# Altium footprint library ZYNQ_Motherboard_final.PcbLib: 31 footprints (part 1 of 2)
Each footprint in its own frame and in the unit in brackets; x right, y up, seen from the top. Pads: shape width x height; smd on the part's side, far side on the other; paste and mask are expansions set on the pad; w line width, h text height; cw(c..) or ccw(c..) is an arc to the next point about the centre after c.
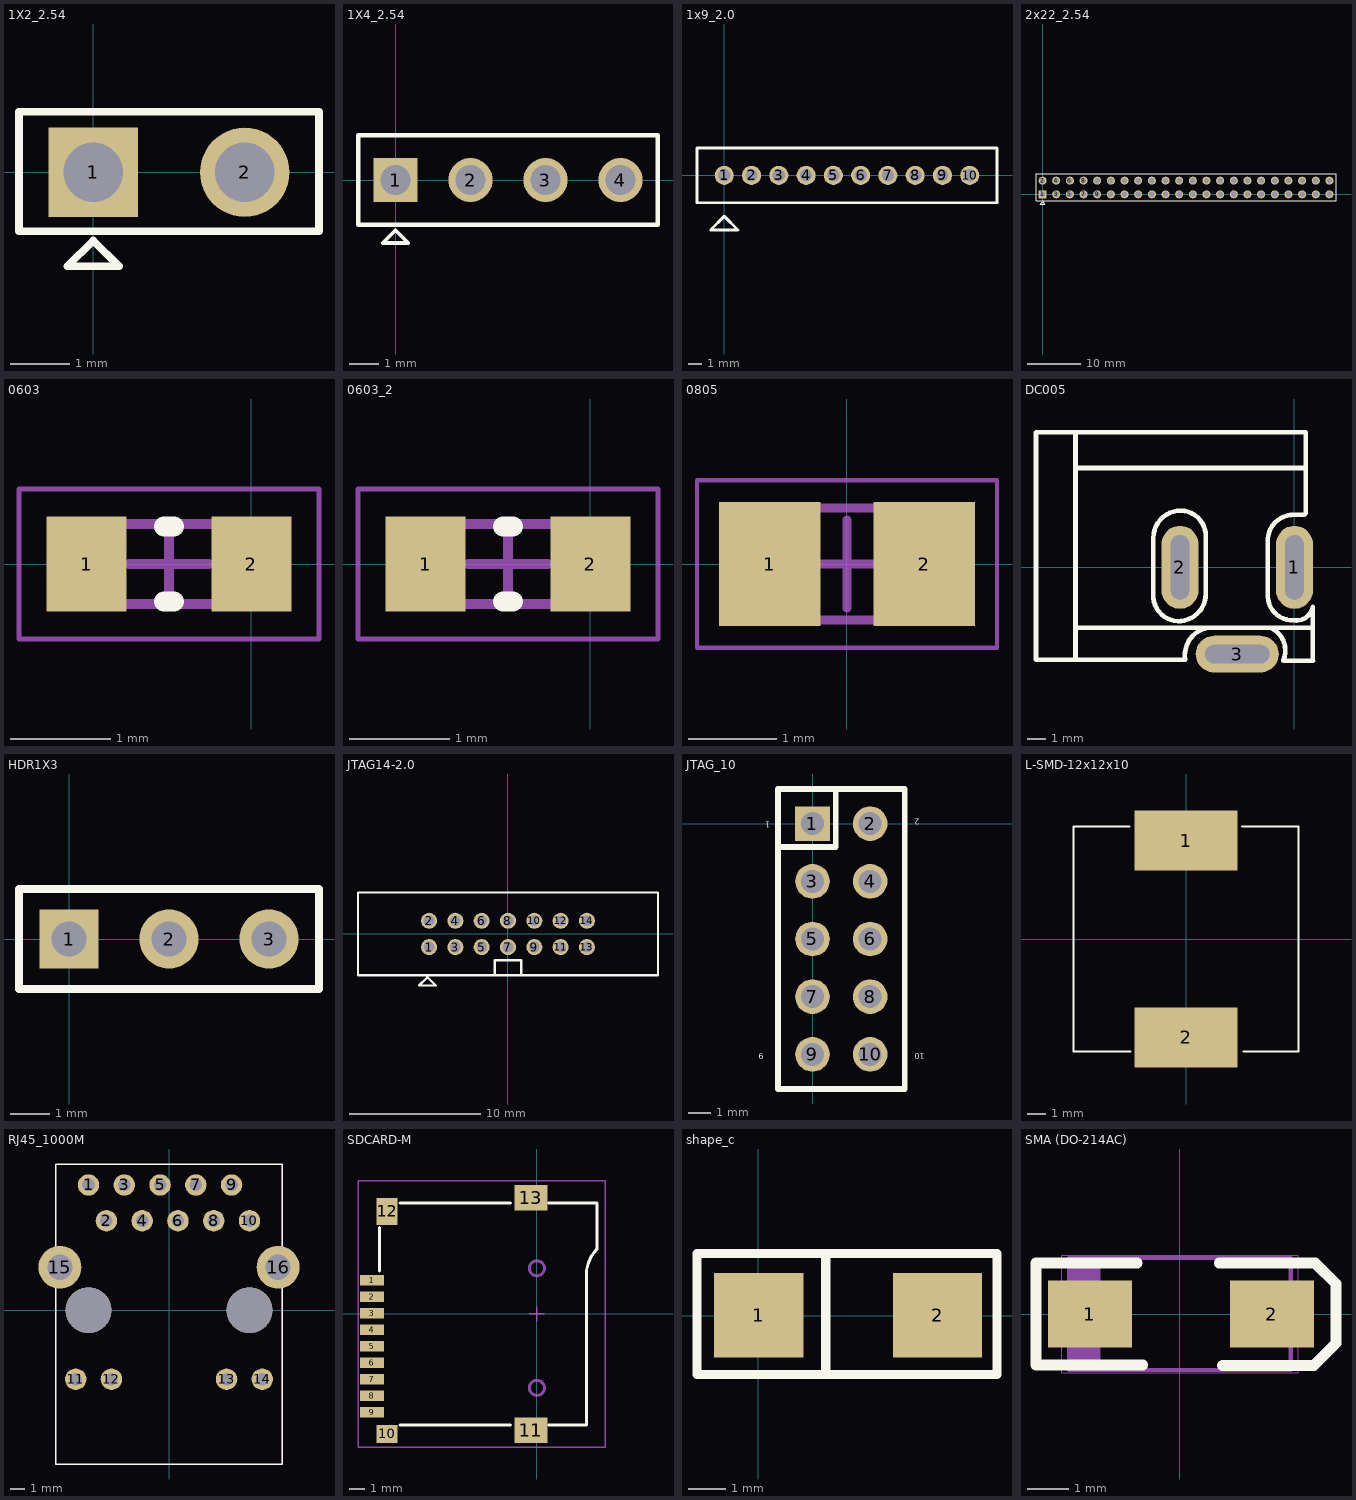
[diagram p0: the footprints below, top view; thin cyan lines are the x and y axes]

## 1X2_2.54 [mm]
pads (2):
  rect 1.5x1.5 hole 1: 1(0,0)
  round 1.5 hole 1: 2(2.54,0)
Top Overlay:
  lines w0.127: -1.245,-0.991 -1.245,1.016 3.785,1.016 3.785,-0.991 -1.245,-0.991 ; -0.432,-1.575 0,-1.143 0.432,-1.575 -0.432,-1.575

## 1X4_2.54 [mm]
height 1.25
pads (4):
  rect 1.5x1.5 hole 1: 1(0,0)
  round 1.5 hole 1: 2(2.54,0) 3(5.08,0) 4(7.62,0)
Top Overlay:
  lines w0.127: -0.432,-2.134 0,-1.702 0.432,-2.134 -0.432,-2.134
  lines w0.152: -1.27,-1.524 -1.27,1.524 8.89,1.524 8.89,-1.524 -1.27,-1.524

## 1x9_2.0 [mm]
pads (10):
  round 1.4 hole 0.9: 1(0,0) 2(2,0) 3(4,0) 4(6,0) 5(8,0) 6(10,0) 7(12,0) 8(14,0) 9(16,0) 10(18,0)
Top Overlay:
  lines w0.203: -2,-2 20,-2 20,2 -2,2 -2,-2 ; -1,-4 1,-4 0,-3 -1,-4

## 2x22_2.54 [mm]
pads (44):
  rect 1.5x1.5 hole 1: 1(0,0)
  round 1.5 hole 1: 2(0,2.54) 3(2.54,0) 4(2.54,2.54) 5(5.08,0) 6(5.08,2.54) 7(7.62,0) 8(7.62,2.54) 9(10.16,0) 10(10.16,2.54) 11(12.7,0) 12(12.7,2.54) 13(15.24,0) 14(15.24,2.54) 15(17.78,0) 16(17.78,2.54) 17(20.32,0) 18(20.32,2.54) 19(22.86,0) 20(22.86,2.54) 21(25.4,0) 22(25.4,2.54) 23(27.94,0) 24(27.94,2.54) 25(30.48,0) 26(30.48,2.54) 27(33.02,0) 28(33.02,2.54) 29(35.56,0) 30(35.56,2.54) 31(38.1,0) 32(38.1,2.54) 33(40.64,0) 34(40.64,2.54) 35(43.18,0) 36(43.18,2.54) 37(45.72,0) 38(45.72,2.54) 39(48.26,0) 40(48.26,2.54) 41(50.8,0) 42(50.8,2.54) 43(53.34,0) 44(53.34,2.54)
Top Overlay:
  lines w0.127: -1.219,-1.194 -1.219,3.708 -1.143,3.785 -0.66,3.785 54.559,3.785 54.559,-1.194 -1.219,-1.194 ; -0.432,-1.803 0,-1.372 0.432,-1.803 -0.432,-1.803

## 0603 [mm]
pads (2):
  rect 0.8x0.95 smd: 1(-1.65,0) 2(0,0)
Top Overlay:
  lines w0.2: -0.875,-0.375 -0.775,-0.375 ; -0.875,0.375 -0.775,0.375
Mechanical 13:
  lines w0.1: -1.625,-0.4 -0.025,-0.4 -0.025,0.4 -1.625,0.4 -1.625,-0.4
Mechanical 15:
  lines w0.05: -2.325,-0.75 0.675,-0.75 0.675,0.75 -2.325,0.75 -2.325,-0.75
  lines w0.1: -1.225,0 -0.425,0 ; -0.825,-0.4 -0.825,0.4
3D body: height 0.5, standoff 0, extent -0.325,-0.4 -0.025,0.4
3D body: height 0.5, standoff 0, extent -1.625,-0.4 -1.325,0.4
3D body: height 0.5, standoff 0, extent -1.325,-0.4 -0.325,0.4

## 0603_2 [mm]
pads (2):
  rect 0.8x0.95 smd: 1(-1.65,0) 2(0,0)
Top Overlay:
  lines w0.2: -0.875,-0.375 -0.775,-0.375 ; -0.875,0.375 -0.775,0.375
Mechanical 13:
  lines w0.1: -1.625,-0.4 -0.025,-0.4 -0.025,0.4 -1.625,0.4 -1.625,-0.4
Mechanical 15:
  lines w0.05: -2.325,-0.75 0.675,-0.75 0.675,0.75 -2.325,0.75 -2.325,-0.75
  lines w0.1: -1.225,0 -0.425,0 ; -0.825,-0.4 -0.825,0.4
3D body: height 0.5, standoff 0, extent -0.325,-0.4 -0.025,0.4
3D body: height 0.5, standoff 0, extent -1.625,-0.4 -1.325,0.4
3D body: height 0.5, standoff 0, extent -1.325,-0.4 -0.325,0.4

## 0805 [mm] "Chip Capacitor, 2-Leads, Body 2.00x1.27mm, IPC Medium Density"
height 1.25
pads (2):
  rect 1.15x1.4 smd: 1(-0.875,0) 2(0.875,0)
Mechanical 13:
  lines w0.1: -1,-0.635 -1,0.635 1,0.635 1,-0.635 -1,-0.635
Mechanical 15:
  lines w0.05: -1.7,-0.95 -1.7,0.95 1.7,0.95 1.7,-0.95 -1.7,-0.95
  lines w0.1: -0.5,0 0.5,0 ; 0,-0.5 0,0.5
3D body: height 1.25, standoff 0, extent -0.55,-0.635 0.55,0.635
3D body: height 1.25, standoff 0, extent -1,-0.635 -0.55,0.635
3D body: height 1.25, standoff 0, extent 0.55,-0.635 1,0.635

## DC005 [mm]
pads (3):
  oval 2x4.5 hole 3.5 slot 1 at 0 deg: 1(0,0) 2(-6.2,0)
  oval 4.5x2 hole 3.5 slot 1 at 90 deg: 3(-3.1,-4.7)
Top Overlay:
  lines w0.254: -11.862,-4.902 -11.862,7.311 ; -11.862,-3.327 -11.811,-3.277 -4.674,-3.277 ; -11.862,5.385 0.584,5.385 ; -7.645,1.588 -7.645,-1.448 ccw(c-6.248,-1.524) -6.325,-2.921 ccw(c-6.299,-1.422) -4.801,-1.448 -4.801,1.651 ccw(c-6.185,1.689) -6.147,3.073 ccw(c-6.159,1.588) -7.645,1.6 ; -0.229,2.845 0.533,2.845 0.619,2.93 0.619,7.311 -14,7.311 -14,-5 -5.918,-5 cw(c-4.434,-4.761) -4.674,-3.277 ; 0,2.845 ccw(c-0.064,1.46) -1.448,1.524 -1.448,-1.575 ccw(c-0.102,-1.524) -0.051,-2.87 ccw(c0.102,-1.981) 0.991,-2.134 0.991,-5.045 ; 0.94,-3.277 -1.295,-3.277 ; 1,-5.055 -0.61,-5.055 ccw(c-1.841,-4.508) -1.295,-3.277 ; -4.674,-3.277 -1.295,-3.277
3D body: height 9, standoff 0, extent -13.818,-4.966 0.66,7.404

## HDR1X3 [mm] "Connector; Header; 3 Position"
height 0.55
pads (3):
  rect 1.5x1.5 hole 0.9: 1(0,0)
  round 1.5 hole 0.9: 2(2.54,0) 3(5.08,0)
Top Overlay:
  lines w0.2: -1.27,-1.27 6.35,-1.27 6.35,1.27 -1.27,1.27 -1.27,-1.27

## JTAG14-2.0 [mil]
height 39.37
pads (14):
  round 48 hole 32: 1(-236.22,-39.37) 2(-236.22,39.37) 3(-157.48,-39.37) 4(-157.48,39.37) 5(-78.74,-39.37) 6(-78.74,39.37) 7(0,-39.37) 8(0,39.37) 9(78.74,-39.37) 10(78.74,39.37) 11(157.48,-39.37) 12(157.48,39.37) 13(236.22,-39.37) 14(236.22,39.37)
Top Overlay:
  lines w7: -39.37,-124.02 -39.37,-78.74 39.37,-78.74 39.37,-124.02 ; -448.82,-124.02 448.82,-124.02 448.82,124.02 -448.82,124.02 -448.82,-124.02 ; -266.22,-154.37 -241.22,-129.37 -216.22,-154.37 -266.22,-154.37

## JTAG_10 [mil]
pads (10):
  rect 60x60 hole 40: 1(-0.35,0.3)
  round 60 hole 40: 2(99.65,0.3) 3(-0.35,-99.7) 4(99.65,-99.7) 5(-0.35,-199.7) 6(99.65,-199.7) 7(-0.35,-299.7) 8(99.65,-299.7) 9(-0.35,-399.7) 10(99.65,-399.7)
Top Overlay:
  lines w10: -60.35,-40 40,-40 40,60 ; -60.35,-459.7 159.65,-459.7 159.65,60.3 -60.35,60.3 -60.35,-459.7
  text "10" at 193.89,-397.89 h9.84
  text "9" at -84.81,-397.89 h9.84
  text "2" at 185.2,8.68 h9.84
  text "1" at -73.8,3.68 h9.84

## L-SMD-12x12x10 [mm]
pads (2):
  rect 5.5x3.2 smd: 1(0,5.25) 2(0,-5.25)
Top Overlay:
  lines w0.127: -3.028,6 -6,6 -6,-6 -2.977,-6 ; 3.003,6 6,6 6,-6 3.068,-6

## RJ45_1000M [mil] "HY911130A"
height 47.24
pads (18):
  round 60 hole 35: 1(-225,350) 2(-175,250) 3(-125,350) 4(-75,250) 5(-25,350) 6(25,250) 7(75,350) 8(125,250) 9(175,350) 10(225,250) 11(-260.83,-192.91) 12(-160.83,-192.91) 13(160.83,-192.91) 14(260.83,-192.91)
  round 120 hole 70: 15(-304.92,120.08) 16(304.92,120.08)
  round 128 hole 128: " "(-225,0) " "(225,0)
Top Overlay:
  lines w3.94: -316.93,-429.92 316.93,-429.92 316.93,408.66 -316.93,408.66 -316.93,-429.92
Mechanical 6:
  text "9" at 175,324.9 h30
  text "8" at 125,224.9 h30
  text "6" at 25,224.9 h30
  text "5" at -25,324.9 h30
  text "7" at 75,324.9 h30
  text "4" at -75,224.9 h30
  text "3" at -125,324.9 h30
  text "2" at -175,224.9 h30
  text "16" at 304.92,82.38 h30
  text "15" at -304.92,82.38 h30
  text "1" at -225,324.9 h30
Mechanical 7:
  lines w1: -316.93,-429.92 316.93,-429.92 316.93,408.66 -316.93,408.66 -316.93,-429.92

## SDCARD-M [mm] "TF卡"
height 1.5
pads (13):
  rect 1.6x0.7 smd: 1(-11.008,2.25) 2(-11.008,1.15) 3(-11.008,0.05) 4(-11.008,-1.05) 5(-11.008,-2.15) 6(-11.008,-3.25) 7(-11.008,-4.35) 8(-11.008,-5.45) 9(-11.008,-6.55)
  rect 1.4x1.2 smd: 10(-10,-8.004)
  rect 2.2x1.7 smd: 11(-0.4,-7.75) 13(-0.4,7.75)
  rect 1.4x1.8 smd: 12(-10,6.85)
Top Overlay:
  lines w0.2: -10.5,2.88 -10.5,5.756 ; -9.144,-7.4 -1.778,-7.4 ; -9.144,7.4 -1.778,7.4 ; 0.762,-7.4 3.3,-7.4 3.3,1.016 ; 0.762,7.4 4,7.4 4,4.318 ccw(c5.69,2.628) 3.3,2.628 3.3,0.762
Mechanical 1:
  circle w0.2: c0,-4.93 r0.5
  circle w0.2: c0,3.05 r0.5
Mechanical 15:
  lines w0.1: -0.5,0 0.5,0 ; 0,-0.5 0,0.5 ; -11.938,-8.89 4.572,-8.89 4.572,8.89 -11.938,8.89 -11.938,-8.89

## shape_c [mil]
pads (2):
  rect 95x90 smd: 1(0.76,0.43) 2(190.76,0.43)
Top Overlay:
  lines w10: -65,-62.57 254,-62.57 254,66 -65,66 -65,-60 ; 72,-62.41 72,60

## SMA (DO-214AC) [mm]
pads (2):
  rect 2x1.6 smd: 1(-2.15,0) 2(2.2,0)
Top Overlay:
  lines w0.254: -1.016,1.22 -3.44,1.22 -3.44,-1.22 -0.889,-1.22 ; 0.94,1.22 3.23,1.22 3.73,0.72 3.73,-0.7 3.2,-1.23 1.016,-1.23
Mechanical 15:
  lines w0.1: -2.548,-1.335 -2.548,1.335 ; -2.448,-1.335 -2.448,1.335 ; -2.348,-1.335 -2.348,1.335 ; -2.248,-1.335 -2.248,1.335 ; -2.148,-1.335 -2.148,1.335 ; -2.047,-1.335 -2.047,1.335 ; -1.948,-1.335 -1.948,1.335 ; -2.648,-1.335 2.648,-1.335 2.648,1.335 -2.648,1.335 -2.648,-1.335
Mechanical 16:
  lines w0.001: -2.83,-1.4 2.83,-1.4 2.83,1.4 -2.83,1.4 -2.83,-1.4
3D body "User Library-DO-214AC(SMA).step": height 2.44, standoff 0.16, extent -2.743,-1.397 2.743,1.397